# EAGLE library part LM239ADT (library ST Microelctronics_By_element14_Batch_1)
Low-power quad voltage comparators
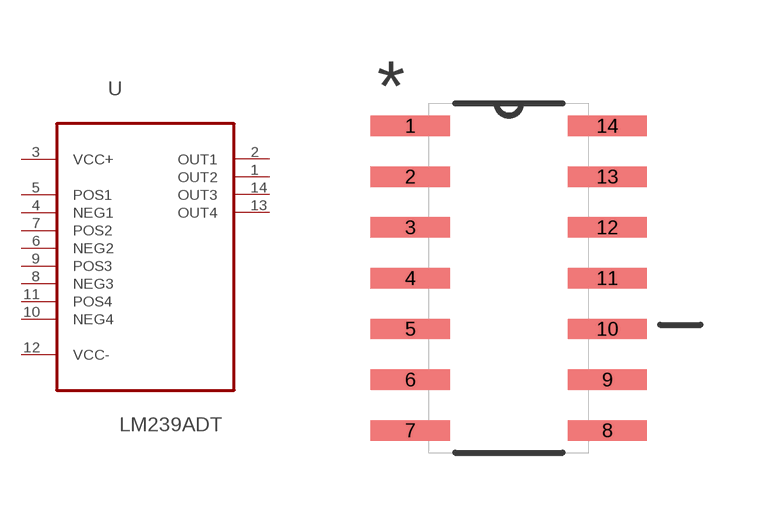
[diagram p95: symbol with the pads of SOIC127P600X175-14N; footprint SOIC127P600X175-14N]

Designator prefix U

## LM239ADT (MPN: LM239ADT; OC_FARNELL: 1564355; OC_NEWARK: 89K0657; PACKAGE: SOIC-14; SUPPLIER: STMicroelectronics)  [SOIC127P600X175-14N]
1  OUT2  out
2  OUT1  out
3  VCC+  pwr
4  NEG1  in
5  POS1  in
6  NEG2  in
7  POS2  in
8  NEG3  in
9  POS3  in
10  NEG4  in
11  POS4  in
12  VCC-  pwr
13  OUT4  out
14  OUT3  out

## Footprint SOIC127P600X175-14N (pad centres in mm)
smd 1.981 x 0.508: 1 -2.464,3.81; 2 -2.464,2.54; 3 -2.464,1.27; 4 -2.464,0; 5 -2.464,-1.27; 6 -2.464,-2.54; 7 -2.464,-3.81; 8 2.464,-3.81; 9 2.464,-2.54; 10 2.464,-1.27; 11 2.464,0; 12 2.464,1.27; 13 2.464,2.54; 14 2.464,3.81